# Altium schematic symbol library 74ABT32D_118.SchLib: 1 symbol
Pins are listed as number, name and electrical type; pins without a type are passive.

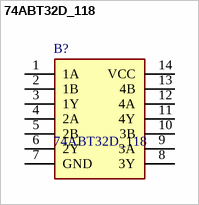
[diagram p0: symbol 74ABT32D_118]

## 74ABT32D_118
designator B?
74ABT32 - Quad 2-input OR gate@en-us; Manufacturer_Name: Nexperia; Manufacturer_Part_Number: 74ABT32D,118; Geometry.Height: 1.75mm; Mouser Part Number: 771-ABT32D118; Mouser Price/Stock: https://www.mouser.co.uk/ProductDetail/Nexperia/74ABT32D118?qs=P62ublwmbi%2FCK0s0KY0Vig%3D%3D; Datasheet Link: https://assets.nexperia.com/documents/data-sheet/74ABT32.pdf
footprint SOIC127P600X175-14N
pins: 1 1A, 2 1B, 3 1Y, 4 2A, 5 2B, 6 2Y, 7 GND, 8 3Y, 9 3A, 10 3B, 11 4Y, 12 4A, 13 4B, 14 VCC